# Altium integrated library AD RF and IF Modulator.IntLib: 4 symbols
Pins are listed as number, name and electrical type; pins without a type are passive.

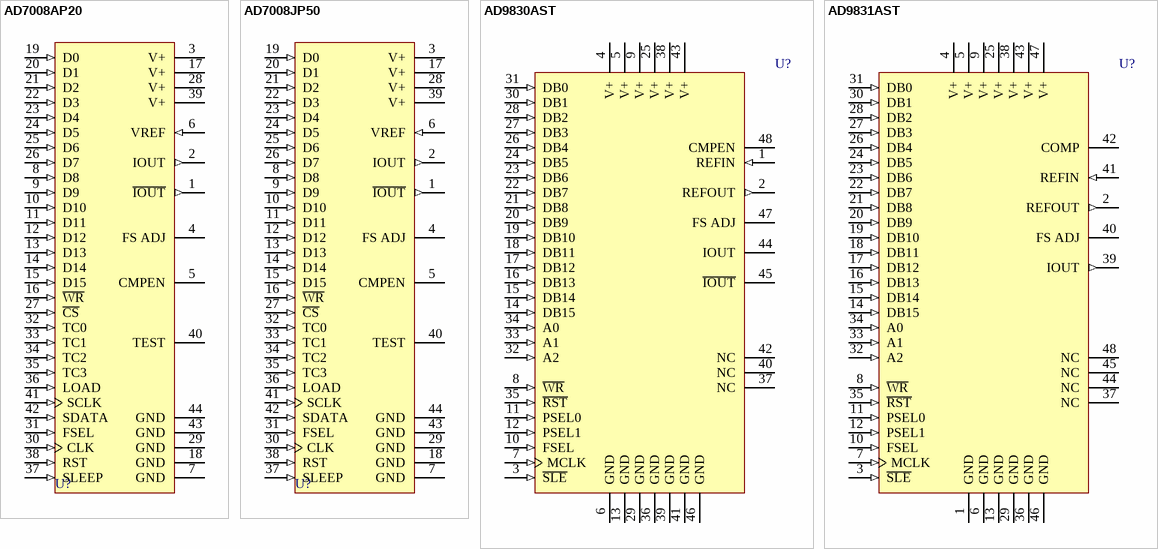
[diagram p0: symbols AD7008AP20 to AD9831AST]

## AD7008AP20
designator U?
CMOS DDS Modulator; Note: Pin 40 is No Connect pin; Pin 44 is analog ground; Pins 7,18,29 and 44 are digital ground.; Published: 8-Jun-2000; LatestRevisionDate: 13-Apr-2006; LatestRevisionNote: IPC-7351 Footprint Added.; DatasheetVersion: Rev.B 1995; PackageVersion: revB; PackageReference: P-44A; Publisher: Altium Limited; PackageDescription: 44-Pin Leaded Chip Carrier 1.27 mm Pitch; Code_IPC: PLCC-44; ComponentLink1Description: Manufacturer Link; ComponentLink1URL: http://www.analog.com/en/prod/0%2C2877%2CAD7008%2C00.html; ComponentLink2Description: Datasheet; ComponentLink2URL: http://www.analog.com/UploadedFiles/Data_Sheets/281210069AD7008.pdf
footprint P-44A_N (Leaded Chip Carrier, 44-Leads, Body 16.6x16.6mm, Pitch 1.27mm, IPC Medium Density)
footprint P-44A_L (Leaded Chip Carrier, 44-Leads, Body 16.6x16.6mm, Pitch 1.27mm, IPC High Density)
footprint P-44A_M (Leaded Chip Carrier, 44-Leads, Body 16.6x16.6mm, Pitch 1.27mm, IPC Low Density)
3D model 7008-P44A (44-Pin Leaded Chip Carrier 1.27 mm Pitch)
pins: 1 ~{IOUT} (out), 2 IOUT (out), 3 V+ (power), 4 FS ADJ, 5 CMPEN, 6 VREF (in), 7 GND (power), 8 D8 (in), 9 D9 (in), 10 D10 (in), 11 D11 (in), 12 D12 (in), 13 D13 (in), 14 D14 (in), 15 D15 (in), 16 ~{WR} (in), 17 V+ (power), 18 GND (power), 19 D0 (in), 20 D1 (in), 21 D2 (in), 22 D3 (in), 23 D4 (in), 24 D5 (in), 25 D6 (in), 26 D7 (in), 27 ~{CS} (in), 28 V+ (power), 29 GND (power), 30 CLK (in), 31 FSEL (in), 32 TC0 (in), 33 TC1 (in), 34 TC2 (in), 35 TC3 (in), 36 LOAD (in), 37 SLEEP (in), 38 RST (in), 39 V+ (power), 40 TEST, 41 SCLK (in), 42 SDATA (in), 43 GND (power), 44 GND (power)

## AD7008JP50
designator U?
CMOS DDS Modulator; Note: Pin 40 is No Connect pin; Pin 44 is analog ground; Pins 7,18,29 and 44 are digital ground.; Published: 8-Jun-2000; LatestRevisionDate: 13-Apr-2006; LatestRevisionNote: IPC-7351 Footprint Added.; DatasheetVersion: Rev.B 1995; PackageVersion: revB; PackageReference: P-44A; Publisher: Altium Limited; PackageDescription: 44-Pin Leaded Chip Carrier 1.27 mm Pitch; Code_IPC: PLCC-44; ComponentLink1Description: Manufacturer Link; ComponentLink1URL: http://www.analog.com/en/prod/0%2C2877%2CAD7008%2C00.html; ComponentLink2Description: Datasheet; ComponentLink2URL: http://www.analog.com/UploadedFiles/Data_Sheets/281210069AD7008.pdf
footprint P-44A_N (Leaded Chip Carrier, 44-Leads, Body 16.6x16.6mm, Pitch 1.27mm, IPC Medium Density)
footprint P-44A_L (Leaded Chip Carrier, 44-Leads, Body 16.6x16.6mm, Pitch 1.27mm, IPC High Density)
footprint P-44A_M (Leaded Chip Carrier, 44-Leads, Body 16.6x16.6mm, Pitch 1.27mm, IPC Low Density)
3D model 7008-P44A (44-Pin Leaded Chip Carrier 1.27 mm Pitch)
pins: 1 ~{IOUT} (out), 2 IOUT (out), 3 V+ (power), 4 FS ADJ, 5 CMPEN, 6 VREF (in), 7 GND (power), 8 D8 (in), 9 D9 (in), 10 D10 (in), 11 D11 (in), 12 D12 (in), 13 D13 (in), 14 D14 (in), 15 D15 (in), 16 ~{WR} (in), 17 V+ (power), 18 GND (power), 19 D0 (in), 20 D1 (in), 21 D2 (in), 22 D3 (in), 23 D4 (in), 24 D5 (in), 25 D6 (in), 26 D7 (in), 27 ~{CS} (in), 28 V+ (power), 29 GND (power), 30 CLK (in), 31 FSEL (in), 32 TC0 (in), 33 TC1 (in), 34 TC2 (in), 35 TC3 (in), 36 LOAD (in), 37 SLEEP (in), 38 RST (in), 39 V+ (power), 40 TEST, 41 SCLK (in), 42 SDATA (in), 43 GND (power), 44 GND (power)

## AD9830AST
designator U?
CMOS Complete DDS; Note: Pins 37, 40 and 42 are No Connect pins; Pins 36,39,41 and 46 are analog ground; Pins 6,13 and 29 digital ground.Pins 38 and 43 are positive power supply pins for the analog section; Pins 4,5,9 and 25 are positive power supply pins for the digital section.; Published: 8-Jun-2000; LatestRevisionDate: 13-Apr-2006; LatestRevisionNote: IPC-7351 Footprint Added.; DatasheetVersion: Rev.A 1996; PackageVersion: revA; PackageReference: ST-48; Publisher: Altium Limited; PackageDescription: 48-Pin Thin Quad Flat Pack 0.5 mm Pitch; ComponentLink1Description: Manufacturer Link; ComponentLink1URL: http://www.analog.com/en/prod/0%2C2877%2CAD9830%2C00.html; ComponentLink2Description: Datasheet; ComponentLink2URL: http://www.analog.com/UploadedFiles/Data_Sheets/3692632ad9830.pdf
footprint ST-48_N (Thin QFP, 48-Leads, Body 7x7mm, Pitch 0.5mm, IPC Medium Density)
footprint ST-48_L (Thin QFP, 48-Leads, Body 7x7mm, Pitch 0.5mm, IPC High Density)
footprint ST-48_M (Thin QFP, 48-Leads, Body 7x7mm, Pitch 0.5mm, IPC Low Density)
3D model 9830-ST48 (48-Pin Thin Quad Flat Pack 0.5 mm Pitch)
pins: 1 REFIN (in), 2 REFOUT (out), 3 ~{SLE} (in), 4 V+ (power), 5 V+ (power), 6 GND (power), 7 MCLK (in), 8 ~{WR} (in), 9 V+ (power), 10 FSEL (in), 11 PSEL0 (in), 12 PSEL1 (in), 13 GND (power), 14 DB15 (in), 15 DB14 (in), 16 DB13 (in), 17 DB12 (in), 18 DB11 (in), 19 DB10 (in), 20 DB9 (in), 21 DB8 (in), 22 DB7 (in), 23 DB6 (in), 24 DB5 (in), 25 V+ (power), 26 DB4 (in), 27 DB3 (in), 28 DB2 (in), 29 GND (power), 30 DB1 (in), 31 DB0 (in), 32 A2 (in), 33 A1 (in), 34 A0 (in), 35 ~{RST} (in), 36 GND (power), 37 NC, 38 V+ (power), 39 GND (power), 40 NC, 41 GND (power), 42 NC, 43 V+ (power), 44 IOUT, 45 ~{IOUT}, 46 GND (power), 47 FS ADJ, 48 CMPEN

## AD9831AST
designator U?
CMOS Complete DDS; Note: Pins 37, 44, 45 and 48 are not connected.; Published: 8-Jun-2000; LatestRevisionDate: 13-Apr-2006; LatestRevisionNote: IPC-7351 Footprint Added.; DatasheetVersion: Rev.A 1996; PackageVersion: revA; PackageReference: ST-48; Publisher: Altium Limited; PackageDescription: 48-Pin Thin Quad Flat Pack 0.5 mm Pitch; ComponentLink1Description: Manufacturer Link; ComponentLink1URL: http://www.analog.com/en/prod/0%2C2877%2CAD9831%2C00.html; ComponentLink2Description: Datasheet; ComponentLink2URL: http://www.analog.com/UploadedFiles/Data_Sheets/79568920ad9831.pdf
footprint ST-48_N (Thin QFP, 48-Leads, Body 7x7mm, Pitch 0.5mm, IPC Medium Density)
footprint ST-48_L (Thin QFP, 48-Leads, Body 7x7mm, Pitch 0.5mm, IPC High Density)
footprint ST-48_M (Thin QFP, 48-Leads, Body 7x7mm, Pitch 0.5mm, IPC Low Density)
3D model 9831-ST48 (48-Pin Thin Quad Flat Pack 0.5 mm Pitch)
pins: 1 GND (power), 2 REFOUT (out), 3 ~{SLE} (in), 4 V+ (power), 5 V+ (power), 6 GND (power), 7 MCLK (in), 8 ~{WR} (in), 9 V+ (power), 10 FSEL (in), 11 PSEL0 (in), 12 PSEL1 (in), 13 GND (power), 14 DB15 (in), 15 DB14 (in), 16 DB13 (in), 17 DB12 (in), 18 DB11 (in), 19 DB10 (in), 20 DB9 (in), 21 DB8 (in), 22 DB7 (in), 23 DB6 (in), 24 DB5 (in), 25 V+ (power), 26 DB4 (in), 27 DB3 (in), 28 DB2 (in), 29 GND (power), 30 DB1 (in), 31 DB0 (in), 32 A2 (in), 33 A1 (in), 34 A0 (in), 35 ~{RST} (in), 36 GND (power), 37 NC, 38 V+ (power), 39 IOUT (out), 40 FS ADJ, 41 REFIN (in), 42 COMP, 43 V+ (power), 44 NC, 45 NC, 46 GND (power), 47 V+ (power), 48 NC